# EAGLE library part 750341145 (library Wurth Electronics Midcom Inc V1-0)
Package Style: Standard EIR25/10/18 Mounting: SMD Pins: 12 pins Header: 250-1050 Windings Primary: Aux: Secondary: Best pinouts for production vary per application. Please contact Wurth Electronics Midcom, Inc. for assistance with your custom design. Datasheet: 750341145 <http://www.we-online.com/web/en/index.php/show/media/passive_components_-_custom_magnetics/pdf_doc_files/spec_sheets/32000/750341145.pdf> Website: Wurth Electronics Midcom <http://www.we-online.com/midcom> Contact us Wurth Electronics Midcom, Inc. 121 Airport Dr. Watertown, SD 57201 Phone: (605) 886-4385 Fax: (605) 886-4486 E-Mail: midcom@we-online.com
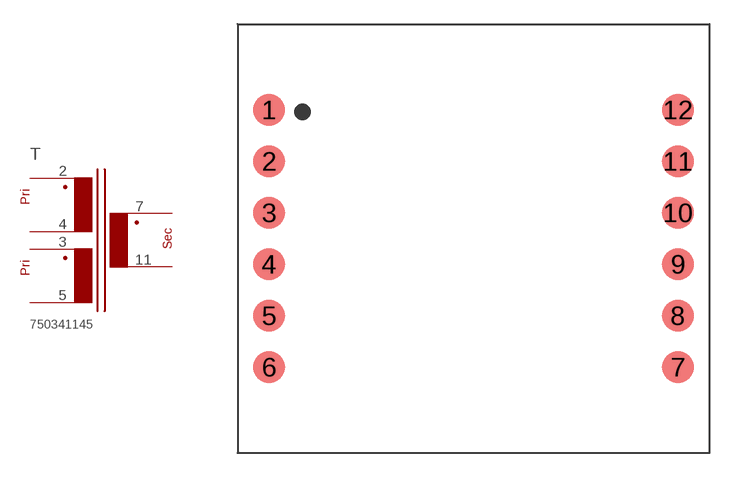
[diagram p163: symbol with the pads of 01STANDARD_EIR25/10/18_SMD_12PIN; footprint 01STANDARD_EIR25/10/18_SMD_12PIN]

Designator prefix T

## 750341145  [01STANDARD_EIR25/10/18_SMD_12PIN]
2  1  pas
3  3  pas
4  2  pas
5  4  pas
7  5  pas
11  6  pas

## Footprint 01STANDARD_EIR25/10/18_SMD_12PIN (pad centres in mm)
Package Style: EIR25/10/18 Mounting: SMD Pins: 12
smd 1.981 x 1.981: 1 -12.7,8.001; 2 -12.7,4.801; 3 -12.7,1.6; 4 -12.7,-1.6; 5 -12.7,-4.801; 6 -12.7,-8.001; 7 12.7,-8.001; 8 12.7,-4.801; 9 12.7,-1.6; 10 12.7,1.6; 11 12.7,4.801; 12 12.7,8.001